# Altium schematic symbol library RES-1206.SchLib: 1 symbol
Pins are listed as number, name and electrical type; pins without a type are passive.

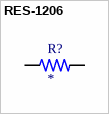
[diagram p0: symbol RES-1206]

## RES-1206
designator R?
CRG1206 1% 1M5; MP: 1623451-1; Package: None; Price: None; Value: *; Availability: Unavailable
footprint RES-1206
pins: 1, 2